# Altium integrated library Analog Devices Data Converters Analog-to-Digital Converters.IntLib: 2400 symbols (part 28 of 338)
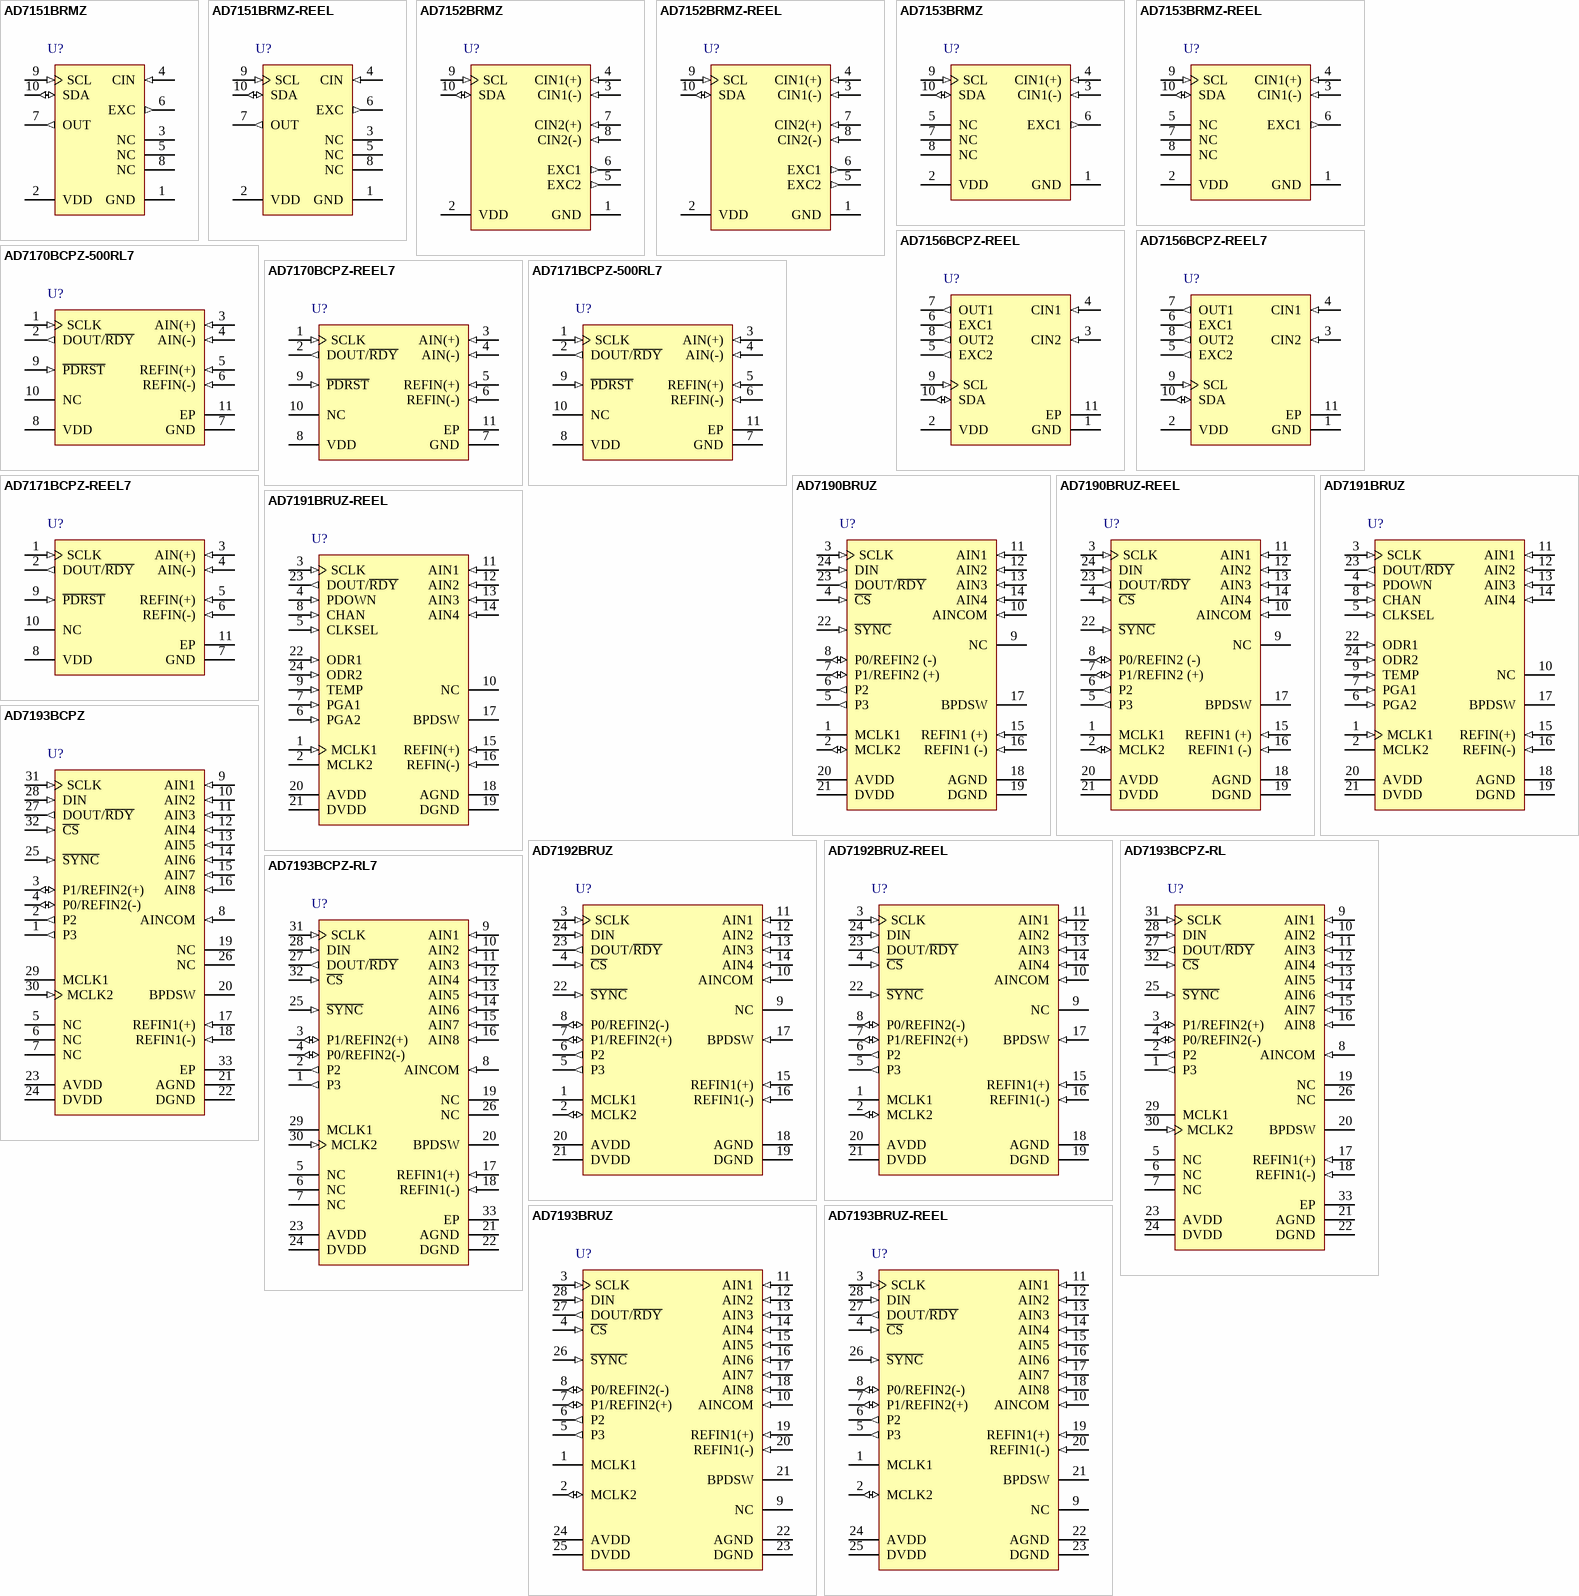
[diagram p270: symbols AD7151BRMZ to AD7193BRUZ-REEL]

## AD7151BRMZ
designator U?
Single 12-Bit Low Power Analog-to-Digital Converter with I2C/Ser 2-Wire, Serial Interface, 100SPS, -40 to +85 degC, RM-10, Pb-Free, Tube; Part Number: AD7151; Manufacturer: Analog Devices; Resolution (Bits): 12; Channels: 1; Throughput Rate (SPS): 100; DatasheetVersion: Rev.0; PackageVersion: May-2005; PackageReference: RM-10; PackageDescription: 10-Lead Mini Small Outline Package [MSOP]; Interface: I2C/Ser 2-Wire, Ser; RoHS: Y; Packing: Tube; Mounting Technology: Surface Mount; ComponentLink1Description: Manufacturer URL; ComponentLink1URL: http://www.analog.com/en/index.html; ComponentLink2Description: Datasheet; ComponentLink2URL: http://www.analog.com/static/imported-files/data_sheets/AD7151.pdf; ComponentLink3Description: Package Specification; ComponentLink3URL: http://www.analog.com/static/imported-files/packages/PKG_PDF/MSOP%28RM%29/RM_10.pdf; ComponentLink4Description: Product URL; ComponentLink4URL: http://www.analog.com/en/analog-to-digital-converters/ad-converters/ad7151/products/product.html
footprint RM-10_N (TSSOP, 10-Leads, Body 3x3mm, Pitch 0.5mm, IPC Medium Density)
footprint RM-10_L (TSSOP, 10-Leads, Body 3x3mm, Pitch 0.5mm, IPC High Density)
footprint RM-10_M (TSSOP, 10-Leads, Body 3x3mm, Pitch 0.5mm, IPC Low Density)
pins: 1 GND (power) "Ground Pin.", 2 VDD (power) "Power Supply Voltage. This pin should be decoupled to GND using a low impedance capacitor, for example, 0.1 uF X7R multilayer ceramic.", 3 NC "This pin should be left as an open circuit or connected to GND.", 4 CIN (in) "CDC Capacitive Input. The measured capacitance (sensor) is connected between the EXC pin and the CIN pin.", 5 NC "This pin should be left as an open circuit.", 6 EXC (out) "CDC Excitation Output. The measured capacitance is connected between the EXC pin and the CIN pin.", 7 OUT (out) "Logic Output. High level on this output indicates proximity detected on the capacitive input.", 8 NC "This pin should be left as an open circuit.", 9 SCL (in) "Serial Interface Clock Input. Connects to the master clock line. Requires a pull-up resistor if not provided elsewhere in the system.", 10 SDA (io) "Serial Interface Bidirectional Data. Connects to the master data line. Requires a pull-up resistor if not provided elsewhere in the system."

## AD7151BRMZ-REEL
designator U?
Single 12-Bit Low Power Analog-to-Digital Converter with I2C/Ser 2-Wire, Serial Interface, 100SPS, -40 to +85 degC, RM-10, Pb-Free, Reel; Part Number: AD7151; Manufacturer: Analog Devices; Resolution (Bits): 12; Channels: 1; Throughput Rate (SPS): 100; DatasheetVersion: Rev.0; PackageVersion: May-2005; PackageReference: RM-10; PackageDescription: 10-Lead Mini Small Outline Package [MSOP]; Interface: I2C/Ser 2-Wire, Ser; RoHS: Y; Packing: Reel; Mounting Technology: Surface Mount; ComponentLink1Description: Manufacturer URL; ComponentLink1URL: http://www.analog.com/en/index.html; ComponentLink2Description: Datasheet; ComponentLink2URL: http://www.analog.com/static/imported-files/data_sheets/AD7151.pdf; ComponentLink3Description: Package Specification; ComponentLink3URL: http://www.analog.com/static/imported-files/packages/PKG_PDF/MSOP%28RM%29/RM_10.pdf; ComponentLink4Description: Product URL; ComponentLink4URL: http://www.analog.com/en/analog-to-digital-converters/ad-converters/ad7151/products/product.html
footprint RM-10_N (TSSOP, 10-Leads, Body 3x3mm, Pitch 0.5mm, IPC Medium Density)
footprint RM-10_L (TSSOP, 10-Leads, Body 3x3mm, Pitch 0.5mm, IPC High Density)
footprint RM-10_M (TSSOP, 10-Leads, Body 3x3mm, Pitch 0.5mm, IPC Low Density)
pins: 1 GND (power) "Ground Pin.", 2 VDD (power) "Power Supply Voltage. This pin should be decoupled to GND using a low impedance capacitor, for example, 0.1 uF X7R multilayer ceramic.", 3 NC "This pin should be left as an open circuit or connected to GND.", 4 CIN (in) "CDC Capacitive Input. The measured capacitance (sensor) is connected between the EXC pin and the CIN pin.", 5 NC "This pin should be left as an open circuit.", 6 EXC (out) "CDC Excitation Output. The measured capacitance is connected between the EXC pin and the CIN pin.", 7 OUT (out) "Logic Output. High level on this output indicates proximity detected on the capacitive input.", 8 NC "This pin should be left as an open circuit.", 9 SCL (in) "Serial Interface Clock Input. Connects to the master clock line. Requires a pull-up resistor if not provided elsewhere in the system.", 10 SDA (io) "Serial Interface Bidirectional Data. Connects to the master data line. Requires a pull-up resistor if not provided elsewhere in the system."

## AD7152BRMZ
designator U?
Dual 12-Bit Capacitance-to-Digital Converter with I2C/Ser 2-Wire, Serial Interface, 200SPS, -40 to +85 degC, RM-10, Pb-Free, Tube; Part Number: AD7152; Manufacturer: Analog Devices; Resolution (Bits): 12; Channels: 2; Throughput Rate (SPS): 200; DatasheetVersion: Rev.0; PackageVersion: May-2005; PackageReference: RM-10; PackageDescription: 10-Lead Mini Small Outline Package [MSOP]; Interface: I2C/Ser 2-Wire, Ser; RoHS: Y; Packing: Tube; Mounting Technology: Surface Mount; ComponentLink1Description: Manufacturer URL; ComponentLink1URL: http://www.analog.com/en/index.html; ComponentLink2Description: Datasheet; ComponentLink2URL: http://www.analog.com/static/imported-files/data_sheets/AD7152_7153.pdf; ComponentLink3Description: Package Specification; ComponentLink3URL: http://www.analog.com/static/imported-files/packages/PKG_PDF/MSOP%28RM%29/RM_10.pdf; ComponentLink4Description: Product URL; ComponentLink4URL: http://www.analog.com/en/analog-to-digital-converters/ad-converters/ad7152/products/product.html
footprint RM-10_N (TSSOP, 10-Leads, Body 3x3mm, Pitch 0.5mm, IPC Medium Density)
footprint RM-10_L (TSSOP, 10-Leads, Body 3x3mm, Pitch 0.5mm, IPC High Density)
footprint RM-10_M (TSSOP, 10-Leads, Body 3x3mm, Pitch 0.5mm, IPC Low Density)
pins: 1 GND (power) "Ground Pin.", 2 VDD (power) "Power Supply Voltage. This pin should be decoupled to GND, using a low impedance capacitor, for example, in combination with a 10 uF tantalum and a 0.1 uF multilayer ceramic capacitor.", 3 CIN1(-) (in) "CDC Negative Capacitive Input of Channel 1. If not used, this pin can be left as an open circuit or connected to GND. This pin is internally disconnected in single-ended CDC configuration.", 4 CIN1(+) (in) "CDC Positive Capacitive Input of Channel 1. If not used, this pin can be left as an open circuit or connected to GND.", 5 EXC2 (out) "CDC Excitation Output for Channel 2. The measured capacitance is connected between one of the EXC pins and one of the CIN pins. If not used, these pins should be left as an open circuit.", 6 EXC1 (out) "CDC Excitation Output for Channel 1. The measured capacitance is connected between one of the EXC pins and one of the CIN pins. If not used, these pins should be left as an open circuit.", 7 CIN2(+) (in) "CDC Positive Capacitive Input of Channel 2. If not used, this pin can be left as an open circuit or connected to GND.", 8 CIN2(-) (in) "CDC Negative Capacitive Input of Channel 2. If not used, this pin can be left as an open circuit or connected to GND. This pin is internally disconnected in single-ended CDC configuration.", 9 SCL (in) "Serial Interface Clock Input. Connects to the master clock line. Requires a pull-up resistor if one is not already provided in the system.", 10 SDA (io) "Serial Interface Bidirectional Data. Connects to the master data line. Requires a pull-up resistor if one is not provided elsewhere in the system."

## AD7152BRMZ-REEL
designator U?
Dual 12-Bit Capacitance-to-Digital Converter with I2C/Ser 2-Wire, Serial Interface, 200SPS, -40 to +85 degC, RM-10, Pb-Free, Reel; Part Number: AD7152; Manufacturer: Analog Devices; Resolution (Bits): 12; Channels: 2; Throughput Rate (SPS): 200; DatasheetVersion: Rev.0; PackageVersion: May-2005; PackageReference: RM-10; PackageDescription: 10-Lead Mini Small Outline Package [MSOP]; Interface: I2C/Ser 2-Wire, Ser; RoHS: Y; Packing: Reel; Mounting Technology: Surface Mount; ComponentLink1Description: Manufacturer URL; ComponentLink1URL: http://www.analog.com/en/index.html; ComponentLink2Description: Datasheet; ComponentLink2URL: http://www.analog.com/static/imported-files/data_sheets/AD7152_7153.pdf; ComponentLink3Description: Package Specification; ComponentLink3URL: http://www.analog.com/static/imported-files/packages/PKG_PDF/MSOP%28RM%29/RM_10.pdf; ComponentLink4Description: Product URL; ComponentLink4URL: http://www.analog.com/en/analog-to-digital-converters/ad-converters/ad7152/products/product.html
footprint RM-10_N (TSSOP, 10-Leads, Body 3x3mm, Pitch 0.5mm, IPC Medium Density)
footprint RM-10_L (TSSOP, 10-Leads, Body 3x3mm, Pitch 0.5mm, IPC High Density)
footprint RM-10_M (TSSOP, 10-Leads, Body 3x3mm, Pitch 0.5mm, IPC Low Density)
pins: 1 GND (power) "Ground Pin.", 2 VDD (power) "Power Supply Voltage. This pin should be decoupled to GND, using a low impedance capacitor, for example, in combination with a 10 uF tantalum and a 0.1 uF multilayer ceramic capacitor.", 3 CIN1(-) (in) "CDC Negative Capacitive Input of Channel 1. If not used, this pin can be left as an open circuit or connected to GND. This pin is internally disconnected in single-ended CDC configuration.", 4 CIN1(+) (in) "CDC Positive Capacitive Input of Channel 1. If not used, this pin can be left as an open circuit or connected to GND.", 5 EXC2 (out) "CDC Excitation Output for Channel 2. The measured capacitance is connected between one of the EXC pins and one of the CIN pins. If not used, these pins should be left as an open circuit.", 6 EXC1 (out) "CDC Excitation Output for Channel 1. The measured capacitance is connected between one of the EXC pins and one of the CIN pins. If not used, these pins should be left as an open circuit.", 7 CIN2(+) (in) "CDC Positive Capacitive Input of Channel 2. If not used, this pin can be left as an open circuit or connected to GND.", 8 CIN2(-) (in) "CDC Negative Capacitive Input of Channel 2. If not used, this pin can be left as an open circuit or connected to GND. This pin is internally disconnected in single-ended CDC configuration.", 9 SCL (in) "Serial Interface Clock Input. Connects to the master clock line. Requires a pull-up resistor if one is not already provided in the system.", 10 SDA (io) "Serial Interface Bidirectional Data. Connects to the master data line. Requires a pull-up resistor if one is not provided elsewhere in the system."

## AD7153BRMZ
designator U?
Single 12-Bit Capacitance-to-Digital Converter with I2C/Ser 2-Wire, Serial Interface, 200SPS, -40 to +85 degC, RM-10, Pb-Free, Tube; Part Number: AD7153; Manufacturer: Analog Devices; Resolution (Bits): 12; Channels: 1; Throughput Rate (SPS): 200; DatasheetVersion: Rev.0; PackageVersion: May-2005; PackageReference: RM-10; PackageDescription: 10-Lead Mini Small Outline Package [MSOP]; Interface: I2C/Ser 2-Wire, Ser; RoHS: Y; Packing: Tube; Mounting Technology: Surface Mount; ComponentLink1Description: Manufacturer URL; ComponentLink1URL: http://www.analog.com/en/index.html; ComponentLink2Description: Datasheet; ComponentLink2URL: http://www.analog.com/static/imported-files/data_sheets/AD7152_7153.pdf; ComponentLink3Description: Package Specification; ComponentLink3URL: http://www.analog.com/static/imported-files/packages/PKG_PDF/MSOP%28RM%29/RM_10.pdf; ComponentLink4Description: Product URL; ComponentLink4URL: http://www.analog.com/en/analog-to-digital-converters/ad-converters/ad7153/products/product.html
footprint RM-10_N (TSSOP, 10-Leads, Body 3x3mm, Pitch 0.5mm, IPC Medium Density)
footprint RM-10_L (TSSOP, 10-Leads, Body 3x3mm, Pitch 0.5mm, IPC High Density)
footprint RM-10_M (TSSOP, 10-Leads, Body 3x3mm, Pitch 0.5mm, IPC Low Density)
pins: 1 GND (power) "Ground Pin.", 2 VDD (power) "Power Supply Voltage. This pin should be decoupled to GND, using a low impedance capacitor, for example, in combination with a 10 uF tantalum and a 0.1 uF multilayer ceramic capacitor.", 3 CIN1(-) (in) "CDC Negative Capacitive Input of Channel 1. If not used, this pin can be left as an open circuit or connected to GND. This pin is internally disconnected in single-ended CDC configuration.", 4 CIN1(+) (in) "CDC Positive Capacitive Input of Channel 1. If not used, this pin can be left as an open circuit or connected to GND.", 5 NC "No Connect. This pin must be left as an open circuit.", 6 EXC1 (out) "CDC Excitation Output for Channel 1. The measured capacitance is connected between one of the EXC pins and one of the CIN pins. If not used, these pins should be left as an open circuit.", 7 NC "No Connect. This pin must be left as an open circuit.", 8 NC "No Connect. This pin must be left as an open circuit.", 9 SCL (in) "Serial Interface Clock Input. Connects to the master clock line. Requires a pull-up resistor if one is not already provided in the system.", 10 SDA (io) "Serial Interface Bidirectional Data. Connects to the master data line. Requires a pull-up resistor if one is not provided elsewhere in the system."

## AD7153BRMZ-REEL
designator U?
Single 12-Bit Capacitance-to-Digital Converter with I2C/Ser 2-Wire, Serial Interface, 200SPS, -40 to +85 degC, RM-10, Pb-Free, Reel; Part Number: AD7153; Manufacturer: Analog Devices; Resolution (Bits): 12; Channels: 1; Throughput Rate (SPS): 200; DatasheetVersion: Rev.0; PackageVersion: May-2005; PackageReference: RM-10; PackageDescription: 10-Lead Mini Small Outline Package [MSOP]; Interface: I2C/Ser 2-Wire, Ser; RoHS: Y; Packing: Reel; Mounting Technology: Surface Mount; ComponentLink1Description: Manufacturer URL; ComponentLink1URL: http://www.analog.com/en/index.html; ComponentLink2Description: Datasheet; ComponentLink2URL: http://www.analog.com/static/imported-files/data_sheets/AD7152_7153.pdf; ComponentLink3Description: Package Specification; ComponentLink3URL: http://www.analog.com/static/imported-files/packages/PKG_PDF/MSOP%28RM%29/RM_10.pdf; ComponentLink4Description: Product URL; ComponentLink4URL: http://www.analog.com/en/analog-to-digital-converters/ad-converters/ad7153/products/product.html
footprint RM-10_N (TSSOP, 10-Leads, Body 3x3mm, Pitch 0.5mm, IPC Medium Density)
footprint RM-10_L (TSSOP, 10-Leads, Body 3x3mm, Pitch 0.5mm, IPC High Density)
footprint RM-10_M (TSSOP, 10-Leads, Body 3x3mm, Pitch 0.5mm, IPC Low Density)
pins: 1 GND (power) "Ground Pin.", 2 VDD (power) "Power Supply Voltage. This pin should be decoupled to GND, using a low impedance capacitor, for example, in combination with a 10 uF tantalum and a 0.1 uF multilayer ceramic capacitor.", 3 CIN1(-) (in) "CDC Negative Capacitive Input of Channel 1. If not used, this pin can be left as an open circuit or connected to GND. This pin is internally disconnected in single-ended CDC configuration.", 4 CIN1(+) (in) "CDC Positive Capacitive Input of Channel 1. If not used, this pin can be left as an open circuit or connected to GND.", 5 NC "No Connect. This pin must be left as an open circuit.", 6 EXC1 (out) "CDC Excitation Output for Channel 1. The measured capacitance is connected between one of the EXC pins and one of the CIN pins. If not used, these pins should be left as an open circuit.", 7 NC "No Connect. This pin must be left as an open circuit.", 8 NC "No Connect. This pin must be left as an open circuit.", 9 SCL (in) "Serial Interface Clock Input. Connects to the master clock line. Requires a pull-up resistor if one is not already provided in the system.", 10 SDA (io) "Serial Interface Bidirectional Data. Connects to the master data line. Requires a pull-up resistor if one is not provided elsewhere in the system."

## AD7156BCPZ-REEL
designator U?
Dual 12-Bit Analog-to-Digital Converter with I2C, Serial 2-Wire, Serial Interface, 100SPS, -40 to +85 degC, CP-10-9, Pb-Free, Reel; Part Number: AD7156; Manufacturer: Analog Devices; Resolution (Bits): 12; Channels: 2; Throughput Rate (SPS): 100; Interface: I2C/Ser 2-Wire, Ser; DatasheetVersion: Rev.0; PackageVersion: 02-27-2012-B; PackageReference: CP-10-9; PackageDescription: 10-Lead Lead Frame Chip Scale Package [LFCSP_WD] 3 x 3 mm Body, Very Very Thin, Dual Lead; RoHS: Y; Packing: Reel; Mounting Technology: Surface Mount; ComponentLink1Description: Manufacturer URL; ComponentLink1URL: http://www.analog.com/en/index.html; ComponentLink2Description: Datasheet; ComponentLink2URL: http://www.analog.com/static/imported-files/data_sheets/AD7156.pdf; ComponentLink3Description: Package Specification; ComponentLink3URL: http://www.analog.com/static/imported-files/packages/CP_10_9.pdf; ComponentLink4Description: Product URL; ComponentLink4URL: http://www.analog.com/en/analog-to-digital-converters/ad-converters/ad7156/products/product.html
footprint CP-10-9_N (SON, 10-Leads, Body 3x3mm, Pitch 0.5mm, Thermal Pad 2.35x1.6mm, IPC Medium Density)
footprint CP-10-9_L (SON, 10-Leads, Body 3x3mm, Pitch 0.5mm, Thermal Pad 2.35x1.6mm, IPC High Density)
footprint CP-10-9_M (SON, 10-Leads, Body 3x3mm, Pitch 0.5mm, Thermal Pad 2.35x1.6mm, IPC Low Density)
pins: 1 GND (power) "Ground Pin.", 2 VDD (power) "Power Supply Voltage. This pin should be decoupled to GND using a low impedance capacitor, such as a0.1 uF X7R multilayer ceramic capacitor.", 3 CIN2 (in) "CDC Capacitive Input Channel 2. The measured capacitance (sensor) is connected between the EXC2 pin andthe CIN2 pin. If not used, this pin can be left open circuit or be connected to GND. When a conversion is performed on (See Datasheet)", 4 CIN1 (in) "CDC Capacitive Input Channel 1. The measured capacitance (sensor) is connected between the EXC1 pin and the CIN1 pin. If not used, this pin can be left open circuit or be connected to GND. When a conversion is performed on (See Datasheet)", 5 EXC2 (out) "CDC Excitation Output Channel 2. The measured capacitance is connected between the EXC2 pin and theCIN2 pin. If not used, this pin should be left as an open circuit. When a conversion is performed on Channel 2, the EXC2 pin (See Datasheet)", 6 EXC1 (out) "CDC Excitation Output Channel 1. The measured capacitance is connected between the EXC1 pin and theCIN1 pin. If not used, this pin should be left as an open circuit. When a conversion is performed on Channel 1, the EXC1 pin (See Datasheet)", 7 OUT1 (out) "Logic Output Channel 1. A high level on this output indicates proximity detected on CIN1.", 8 OUT2 (out) "Logic Output Channel 2. A high level on this output indicates proximity detected on CIN2.", 9 SCL (in) "Serial Interface Clock Input. This pin connects to the master clock line and requires a pull-up resistor if not provided elsewhere in the system.", 10 SDA (io) "Serial Interface Bidirectional Data. This pin connects to the master data line and requires a pull-up resistor if not provided elsewhere in the system.", 11 EP (power) "The exposed pad must be connected to GND or it must be isolated (floating)."